# Altium footprint library Package_TO_SOT_SMD.PcbLib: 132 footprints (part 4 of 9)
Each footprint in its own frame and in the unit in brackets; x right, y up, seen from the top. Pads: shape width x height; smd on the part's side, far side on the other; paste and mask are expansions set on the pad; w line width, h text height; cw(c..) or ccw(c..) is an arc to the next point about the centre after c.
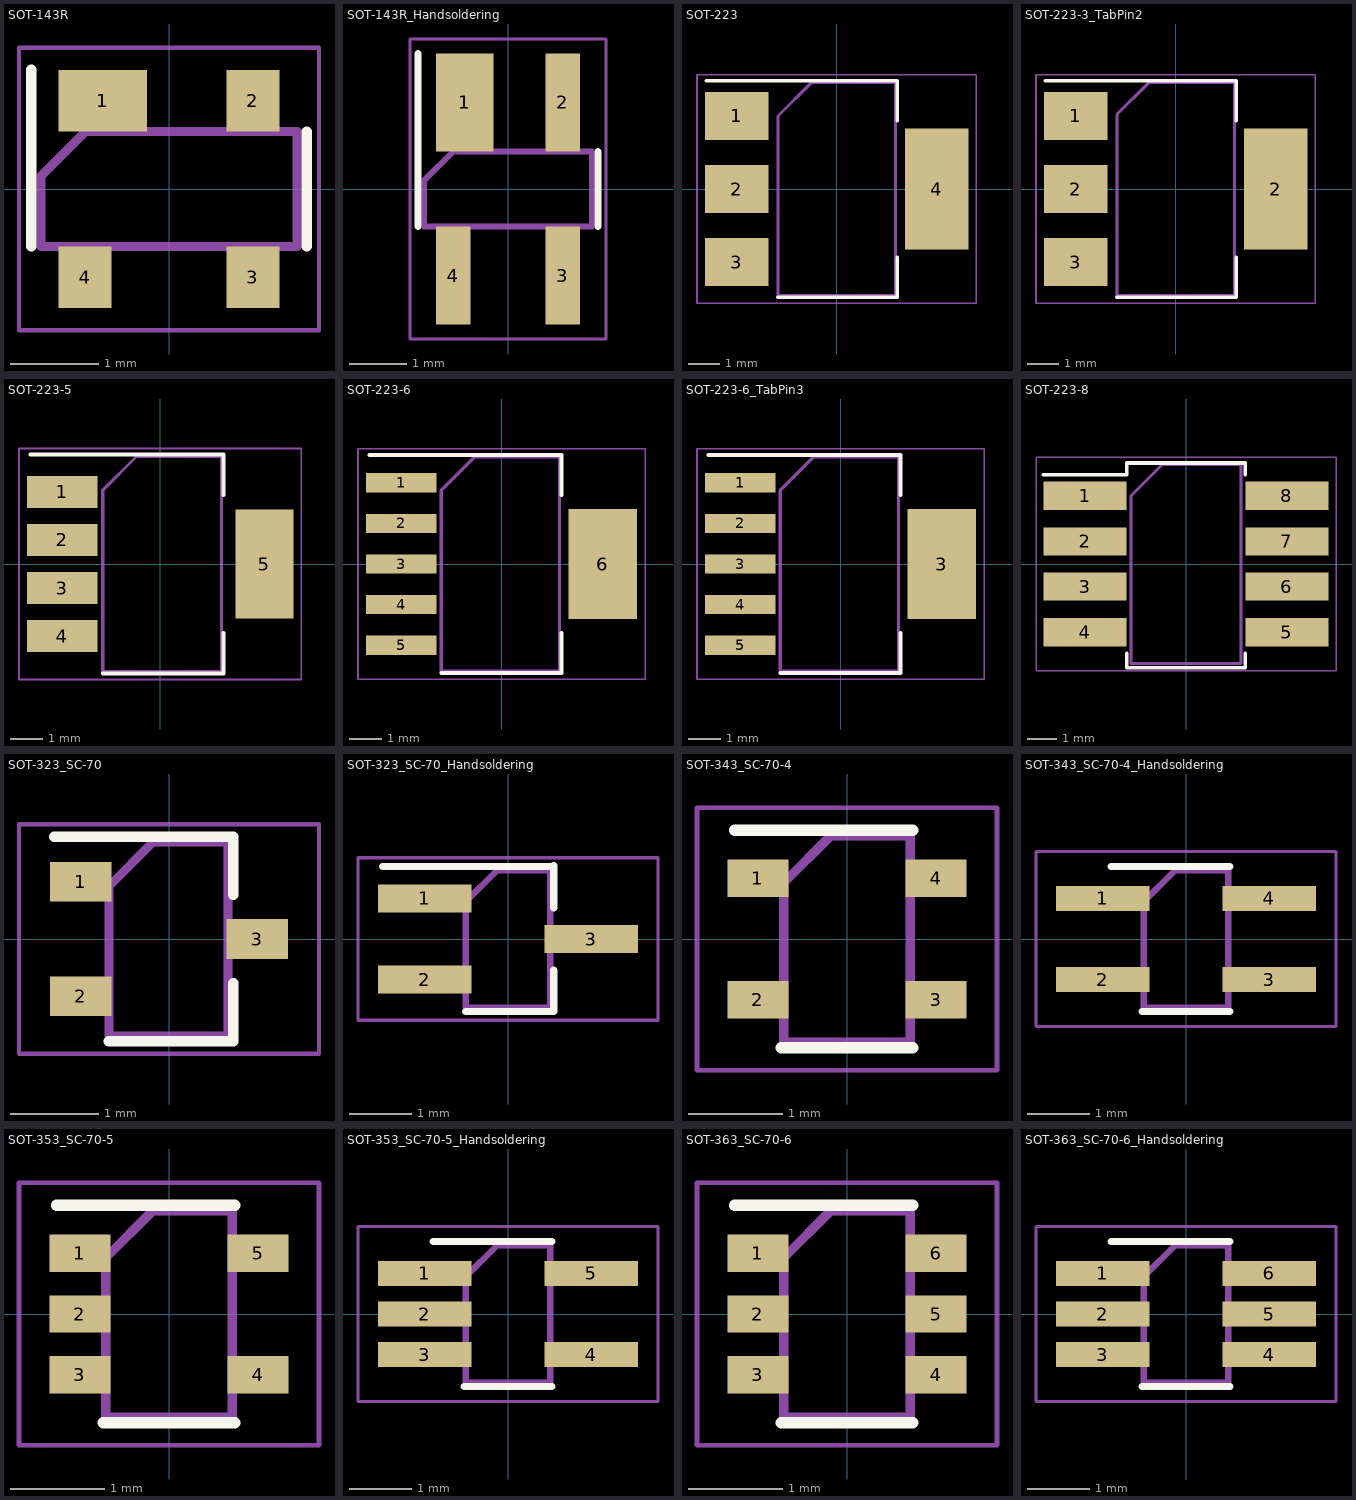
[diagram p3: the footprints below, top view; thin cyan lines are the x and y axes]

## SOT-143R [mm]
pads (4):
  rect 1x0.7 smd: 1(-0.75,1)
  rect 0.6x0.7 smd: 2(0.95,1) 3(0.95,-1) 4(-0.95,-1)
F.SilkS:
  lines w0.12: -1.56,-0.65 -1.56,1.35 ; 1.56,-0.65 1.56,0.65
F.CrtYd:
  lines w0.05: -1.7,-1.6 1.7,-1.6 1.7,1.6 -1.7,1.6 -1.7,-1.6
F.Fab:
  lines w0.1: -1.45,-0.65 1.45,-0.65 1.45,0.65 -0.95,0.65 -1.45,0.15 -1.45,-0.65
  text "'.Designator'" at -2.023,-0.42 h0.5

## SOT-143R_Handsoldering [mm]
pads (4):
  rect 1x1.7 smd: 1(-0.75,1.5)
  rect 0.6x1.7 smd: 2(0.95,1.5) 3(0.95,-1.5) 4(-0.95,-1.5)
F.SilkS:
  lines w0.12: -1.56,-0.65 -1.56,2.35 ; 1.56,-0.65 1.56,0.65
F.CrtYd:
  lines w0.05: -1.7,-2.6 -1.7,2.6 1.7,2.6 1.7,-2.6 -1.7,-2.6
F.Fab:
  lines w0.1: -1.45,-0.65 1.45,-0.65 1.45,0.65 -0.95,0.65 -1.45,0.15 -1.45,-0.65
  text "'.Designator'" at -2.023,-0.42 h0.5

## SOT-223 [mm]
pads (4):
  rect 2x1.5 smd: 1(-3.15,2.3) 2(-3.15,0) 3(-3.15,-2.3)
  rect 2x3.8 smd: 4(3.15,0)
F.SilkS:
  lines w0.12: -4.1,3.41 1.91,3.41 1.91,2.15 ; -1.85,-3.41 1.91,-3.41 1.91,-2.15
F.CrtYd:
  lines w0.05: -4.4,-3.6 -4.4,3.6 4.4,3.6 4.4,-3.6 -4.4,-3.6
F.Fab:
  lines w0.1: -1.85,-3.35 -1.85,2.3 -0.8,3.35 1.85,3.35 1.85,-3.35 -1.85,-3.35
  text "'.Designator'" at 0.672,-3.237 h0.8

## SOT-223-3_TabPin2 [mm]
pads (4):
  rect 2x1.5 smd: 1(-3.15,2.3) 2(-3.15,0) 3(-3.15,-2.3)
  rect 2x3.8 smd: 2(3.15,0)
F.SilkS:
  lines w0.12: -4.1,3.41 1.91,3.41 1.91,2.15 ; -1.85,-3.41 1.91,-3.41 1.91,-2.15
F.CrtYd:
  lines w0.05: -4.4,-3.6 -4.4,3.6 4.4,3.6 4.4,-3.6 -4.4,-3.6
F.Fab:
  lines w0.1: -1.85,-3.35 1.85,-3.35 1.85,3.35 -0.85,3.35 -1.85,2.35 -1.85,-3.35
  text "'.Designator'" at 0.672,-3.237 h0.8

## SOT-223-5 [mm]
pads (5):
  rect 2.2x1 smd: 1(-3.05,2.25) 2(-3.05,0.75) 3(-3.05,-0.75) 4(-3.05,-2.25)
  rect 1.8x3.4 smd: 5(3.25,0)
F.SilkS:
  lines w0.12: -4.038,3.41 1.973,3.41 1.973,2.15 ; -1.787,-3.41 1.973,-3.41 1.973,-2.15
F.CrtYd:
  lines w0.05: -4.4,-3.6 -4.4,3.6 4.4,3.6 4.4,-3.6 -4.4,-3.6
F.Fab:
  lines w0.1: -1.787,-3.35 1.913,-3.35 1.913,3.35 -0.737,3.35 -1.787,2.3 -1.787,-3.35
  text "'.Designator'" at 0.672,-3.237 h0.8

## SOT-223-6 [mm]
pads (6):
  rect 2.2x0.6 smd: 1(-3.137,2.54) 2(-3.137,1.27) 3(-3.137,0) 4(-3.137,-1.27) 5(-3.137,-2.54)
  rect 2.15x3.45 smd: 6(3.163,0)
F.SilkS:
  lines w0.12: -4.137,3.41 1.873,3.41 1.873,2.15 ; -1.887,-3.41 1.873,-3.41 1.873,-2.15
F.CrtYd:
  lines w0.05: -4.49,-3.6 4.49,-3.6 4.49,3.6 -4.49,3.6 -4.49,-3.6
F.Fab:
  lines w0.1: -1.887,-3.35 -1.887,2.3 -0.837,3.35 1.813,3.35 1.813,-3.35 -1.887,-3.35
  text "'.Designator'" at 0.672,-3.237 h0.8

## SOT-223-6_TabPin3 [mm]
pads (6):
  rect 2.2x0.6 smd: 1(-3.137,2.54) 2(-3.137,1.27) 3(-3.137,0) 4(-3.137,-1.27) 5(-3.137,-2.54)
  rect 2.15x3.45 smd: 3(3.163,0)
F.SilkS:
  lines w0.12: -4.137,3.41 1.873,3.41 1.873,2.15 ; -1.887,-3.41 1.873,-3.41 1.873,-2.15
F.CrtYd:
  lines w0.05: -4.49,-3.6 -4.49,3.6 4.49,3.6 4.49,-3.6 -4.49,-3.6
F.Fab:
  lines w0.1: -1.887,-3.35 1.813,-3.35 1.813,3.35 -0.837,3.35 -1.887,2.3 -1.887,-3.35
  text "'.Designator'" at 0.672,-3.237 h0.8

## SOT-223-8 [mm]
pads (8):
  rect 2.8x0.95 smd: 1(-3.4,2.3) 2(-3.4,0.76) 3(-3.4,-0.76) 4(-3.4,-2.3) 5(3.4,-2.3) 6(3.4,-0.76) 7(3.4,0.76) 8(3.4,2.3)
F.SilkS:
  lines w0.12: -4.8,3 -2,3 -2,3.4 2,3.4 2,3 ; -2,-3 -2,-3.5 2,-3.5 2,-3
F.CrtYd:
  lines w0.05: -5.05,-3.6 5.05,-3.6 5.05,3.6 -5.05,3.6 -5.05,-3.6
F.Fab:
  lines w0.1: -1.85,-3.35 -1.85,2.3 -0.8,3.35 1.85,3.35 1.85,-3.35 -1.85,-3.35
  text "'.Designator'" at 0.672,-3.237 h0.8

## SOT-323_SC-70 [mm]
pads (3):
  rect 0.7x0.45 smd: 1(-1,0.65) 2(-1,-0.65) 3(1,0)
F.SilkS:
  lines w0.12: -1.3,1.16 0.73,1.16 0.73,0.5 ; -0.68,-1.16 0.73,-1.16 0.73,-0.5
F.CrtYd:
  lines w0.05: -1.7,-1.3 -1.7,1.3 1.7,1.3 1.7,-1.3 -1.7,-1.3
F.Fab:
  lines w0.1: -0.68,-1.1 0.67,-1.1 0.67,1.1 -0.18,1.1 -0.68,0.6 -0.68,-1.1
  text "'.Designator'" at 0.42,-2.023 h0.5

## SOT-323_SC-70_Handsoldering [mm]
pads (3):
  rect 1.5x0.45 smd: 1(-1.33,0.65) 2(-1.33,-0.65) 3(1.33,0)
F.SilkS:
  lines w0.12: -2,1.16 0.735,1.16 ; -0.675,-1.16 0.735,-1.16 0.735,-0.5 ; 0.735,0.5 0.735,1.17
F.CrtYd:
  lines w0.05: -2.4,-1.3 -2.4,1.3 2.4,1.3 2.4,-1.3 -2.4,-1.3
F.Fab:
  lines w0.1: -0.675,-1.1 0.675,-1.1 0.675,1.1 -0.175,1.1 -0.675,0.6 -0.675,-1.1
  text "'.Designator'" at 0.42,-2.023 h0.5

## SOT-343_SC-70-4 [mm]
pads (4):
  rect 0.65x0.4 smd: 1(-0.95,0.65) 2(-0.95,-0.65) 3(0.95,-0.65) 4(0.95,0.65)
F.SilkS:
  lines w0.12: -1.2,1.16 0.7,1.16 ; -0.7,-1.16 0.7,-1.16
F.CrtYd:
  lines w0.05: -1.6,-1.4 -1.6,1.4 1.6,1.4 1.6,-1.4 -1.6,-1.4
F.Fab:
  lines w0.1: -0.675,-1.1 0.675,-1.1 0.675,1.1 -0.175,1.1 -0.675,0.6 -0.675,-1.1
  text "'.Designator'" at 0.42,-2.023 h0.5

## SOT-343_SC-70-4_Handsoldering [mm]
pads (4):
  rect 1.5x0.4 smd: 1(-1.33,0.65) 2(-1.33,-0.65) 3(1.33,-0.65) 4(1.33,0.65)
F.SilkS:
  lines w0.12: -1.2,1.16 0.7,1.16 ; -0.7,-1.16 0.7,-1.16
F.CrtYd:
  lines w0.05: -2.4,-1.4 2.4,-1.4 2.4,1.4 -2.4,1.4 -2.4,-1.4
F.Fab:
  lines w0.1: -0.675,-1.1 -0.675,0.6 -0.175,1.1 0.675,1.1 0.675,-1.1 -0.675,-1.1
  text "'.Designator'" at 0.42,-2.023 h0.5

## SOT-353_SC-70-5 [mm]
pads (5):
  rect 0.65x0.4 smd: 1(-0.95,0.65) 2(-0.95,0) 3(-0.95,-0.65) 4(0.95,-0.65) 5(0.95,0.65)
F.SilkS:
  lines w0.12: -1.2,1.16 0.7,1.16 ; -0.7,-1.16 0.7,-1.16
F.CrtYd:
  lines w0.05: -1.6,-1.4 1.6,-1.4 1.6,1.4 -1.6,1.4 -1.6,-1.4
F.Fab:
  lines w0.1: -0.675,-1.1 0.675,-1.1 0.675,1.1 -0.175,1.1 -0.675,0.6 -0.675,-1.1
  text "'.Designator'" at 0.42,-2.023 h0.5

## SOT-353_SC-70-5_Handsoldering [mm]
pads (5):
  rect 1.5x0.4 smd: 1(-1.33,0.65) 2(-1.33,0) 3(-1.33,-0.65) 4(1.33,-0.65) 5(1.33,0.65)
F.SilkS:
  lines w0.12: -1.2,1.16 0.7,1.16 ; -0.7,-1.16 0.7,-1.16
F.CrtYd:
  lines w0.05: -2.4,-1.4 -2.4,1.4 2.4,1.4 2.4,-1.4 -2.4,-1.4
F.Fab:
  lines w0.1: -0.675,-1.1 -0.675,0.6 -0.175,1.1 0.675,1.1 0.675,-1.1 -0.675,-1.1
  text "'.Designator'" at 0.42,-2.023 h0.5

## SOT-363_SC-70-6 [mm]
pads (6):
  rect 0.65x0.4 smd: 1(-0.95,0.65) 2(-0.95,0) 3(-0.95,-0.65) 4(0.95,-0.65) 5(0.95,0) 6(0.95,0.65)
F.SilkS:
  lines w0.12: -1.2,1.16 0.7,1.16 ; -0.7,-1.16 0.7,-1.16
F.CrtYd:
  lines w0.05: -1.6,-1.4 1.6,-1.4 1.6,1.4 -1.6,1.4 -1.6,-1.4
F.Fab:
  lines w0.1: -0.675,-1.1 -0.675,0.6 -0.175,1.1 0.675,1.1 0.675,-1.1 -0.675,-1.1
  text "'.Designator'" at 0.42,-2.023 h0.5

## SOT-363_SC-70-6_Handsoldering [mm]
pads (6):
  rect 1.5x0.4 smd: 1(-1.33,0.65) 2(-1.33,0) 3(-1.33,-0.65) 4(1.33,-0.65) 5(1.33,0) 6(1.33,0.65)
F.SilkS:
  lines w0.12: -1.2,1.16 0.7,1.16 ; -0.7,-1.16 0.7,-1.16
F.CrtYd:
  lines w0.05: -2.4,-1.4 -2.4,1.4 2.4,1.4 2.4,-1.4 -2.4,-1.4
F.Fab:
  lines w0.1: -0.675,-1.1 -0.675,0.6 -0.175,1.1 0.675,1.1 0.675,-1.1 -0.675,-1.1
  text "'.Designator'" at 0.42,-2.023 h0.5